# EAGLE library part TSW-112-02-S-D (library con-samtec)
THROUGH-HOLE .025" SQ POST HEADER Source: Samtec TSW.pdf
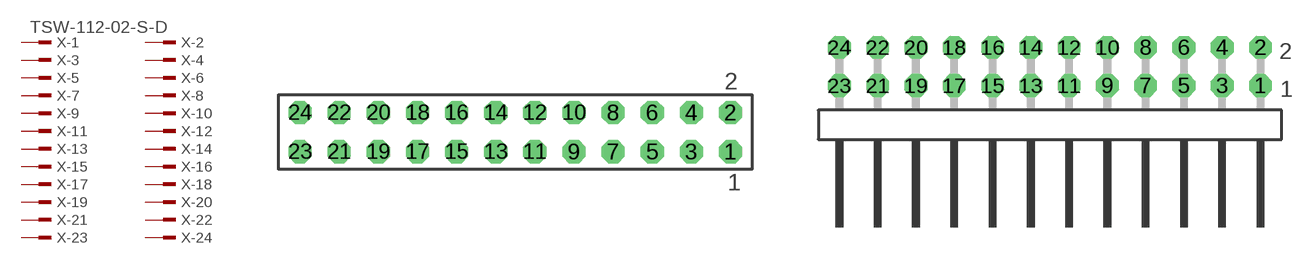
[diagram p326: symbol with the pads of TSW-112-02-S-D; footprints TSW-112-02-S-D, TSW-112-02-S-D-RA]

Designator prefix X; gates -1=MPINV -2=MPIN -3=MPIN -4=MPIN -5=MPIN -6=MPIN -7=MPIN -8=MPIN -9=MPIN -10=MPIN -11=MPIN -12=MPIN -13=MPIN -14=MPIN -15=MPIN -16=MPIN -17=MPIN -18=MPIN -19=MPIN -20=MPIN -21=MPIN -22=MPIN -23=MPIN -24=MPIN

## TSW-112-02-S-D (OC_FARNELL: unknown; OC_NEWARK: unknown)  [TSW-112-02-S-D]
1  -1:1  pas
2  -2:1  pas
3  -3:1  pas
4  -4:1  pas
5  -5:1  pas
6  -6:1  pas
7  -7:1  pas
8  -8:1  pas
9  -9:1  pas
10  -10:1  pas
11  -11:1  pas
12  -12:1  pas
13  -13:1  pas
14  -14:1  pas
15  -15:1  pas
16  -16:1  pas
17  -17:1  pas
18  -18:1  pas
19  -19:1  pas
20  -20:1  pas
21  -21:1  pas
22  -22:1  pas
23  -23:1  pas
24  -24:1  pas

## TSW-112-02-S-D-RA (OC_FARNELL: unknown; OC_NEWARK: unknown)  [TSW-112-02-S-D-RA]
Pads as for TSW-112-02-S-D

## Footprint TSW-112-02-S-D (pad centres in mm)
THROUGH-HOLE .025" SQ POST HEADER Source: Samtec TSW.pdf
drill 1 pad 1.5 octagon: 1 13.97,-1.27; 2 13.97,1.27; 3 11.43,-1.27; 4 11.43,1.27; 5 8.89,-1.27; 6 8.89,1.27; 7 6.35,-1.27; 8 6.35,1.27; 9 3.81,-1.27; 10 3.81,1.27; 11 1.27,-1.27; 12 1.27,1.27; 13 -1.27,-1.27; 14 -1.27,1.27; 15 -3.81,-1.27; 16 -3.81,1.27; 17 -6.35,-1.27; 18 -6.35,1.27; 19 -8.89,-1.27; 20 -8.89,1.27; 21 -11.43,-1.27; 22 -11.43,1.27; 23 -13.97,-1.27; 24 -13.97,1.27

## Footprint TSW-112-02-S-D-RA (pad centres in mm)
THROUGH-HOLE .025" SQ POST HEADER Source: Samtec TSW.pdf
drill 1 pad 1.5 octagon: 1 13.97,1.524; 2 13.97,4.064; 3 11.43,1.524; 4 11.43,4.064; 5 8.89,1.524; 6 8.89,4.064; 7 6.35,1.524; 8 6.35,4.064; 9 3.81,1.524; 10 3.81,4.064; 11 1.27,1.524; 12 1.27,4.064; 13 -1.27,1.524; 14 -1.27,4.064; 15 -3.81,1.524; 16 -3.81,4.064; 17 -6.35,1.524; 18 -6.35,4.064; 19 -8.89,1.524; 20 -8.89,4.064; 21 -11.43,1.524; 22 -11.43,4.064; 23 -13.97,1.524; 24 -13.97,4.064